# EAGLE library part 61304021121 (library Eagle_BOARD-TO-BOARD_CONNECTORS (rev18b))
WR-PHD 2.54mm Dual Pin Header, 40 Pins =>Code : Con_BTB_PHD_2.54_2_61304021121 <http://katalog.we-online.de/media/images/eican/Con_BTB_PHD_2.54_2_6130xx21121_pf2.jpg> Details see: http://katalog.we-online.de/en/em/613_0xx_211_21 Created 2014-05-29, Karrer Zheng 2014 (C) Würth Elektronik
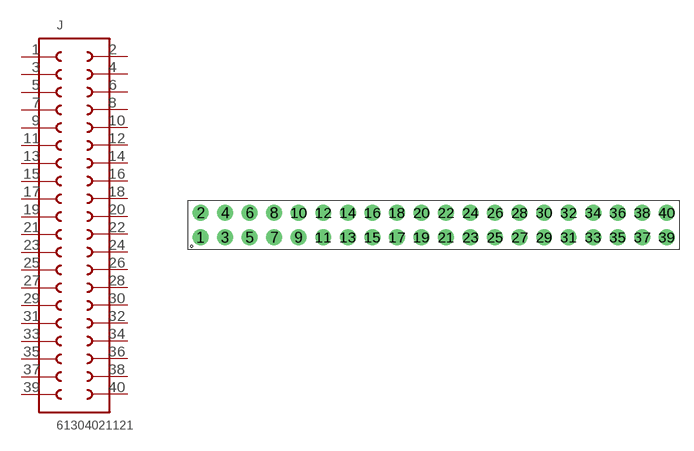
[diagram p34: symbol with the pads of 61304021121; footprint 61304021121]

Designator prefix J

## 61304021121  [61304021121]
1  1  pas
2  40  pas
3  2  pas
4  39  pas
5  3  pas
6  38  pas
7  4  pas
8  37  pas
9  5  pas
10  36  pas
11  6  pas
12  35  pas
13  7  pas
14  34  pas
15  8  pas
16  33  pas
17  9  pas
18  32  pas
19  10  pas
20  31  pas
21  11  pas
22  30  pas
23  12  pas
24  29  pas
25  13  pas
26  28  pas
27  14  pas
28  27  pas
29  15  pas
30  26  pas
31  16  pas
32  25  pas
33  17  pas
34  24  pas
35  18  pas
36  23  pas
37  19  pas
38  22  pas
39  20  pas
40  21  pas

## Footprint 61304021121 (pad centres in mm)
WR-PHD 2.54mm Dual Pin Header, 40 Pins
drill 1.1: 1 -24.13,-1.27; 2 -24.13,1.27; 3 -21.59,-1.27; 4 -21.59,1.27; 5 -19.05,-1.27; 6 -19.05,1.27; 7 -16.51,-1.27; 8 -16.51,1.27; 9 -13.97,-1.27; 10 -13.97,1.27; 11 -11.43,-1.27; 12 -11.43,1.27; 13 -8.89,-1.27; 14 -8.89,1.27; 15 -6.35,-1.27; 16 -6.35,1.27; 17 -3.81,-1.27; 18 -3.81,1.27; 19 -1.27,-1.27; 20 -1.27,1.27; 21 1.27,-1.27; 22 1.27,1.27; 23 3.81,-1.27; 24 3.81,1.27; 25 6.35,-1.27; 26 6.35,1.27; 27 8.89,-1.27; 28 8.89,1.27; 29 11.43,-1.27; 30 11.43,1.27; 31 13.97,-1.27; 32 13.97,1.27; 33 16.51,-1.27; 34 16.51,1.27; 35 19.05,-1.27; 36 19.05,1.27; 37 21.59,-1.27; 38 21.59,1.27; 39 24.13,-1.27; 40 24.13,1.27